# Altium integrated library 18650_Holder.IntLib: 1 symbol
Pins are listed as number, name and electrical type; pins without a type are passive.

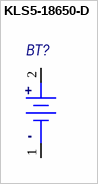
[diagram p0: symbol KLS5-18650-D]

## KLS5-18650-D
designator BT?  (value not drawn)
18650 holder, dip mount, Dielectric Strength:560 Volts/Mil for 5 Sec
footprint KLS5-18650-D
pins: 1 -, 2 +